# Altium schematic symbol library AP7381.Schlib: 1 symbol
Pins are listed as number, name and electrical type; pins without a type are passive.

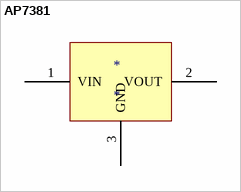
[diagram p0: symbol AP7381]

## AP7381
designator *
pins: 1 VIN, 2 VOUT, 3 GND